# EAGLE library part SN65C3221EPWR (library SN65C3221EPWR)
3-V To 5.5-V Single Channel RS-232 1 Mbit/s Line Driver/Receiver Source: Datasheet <http://www.ti.com/lit/gpn/sn65c3221e>
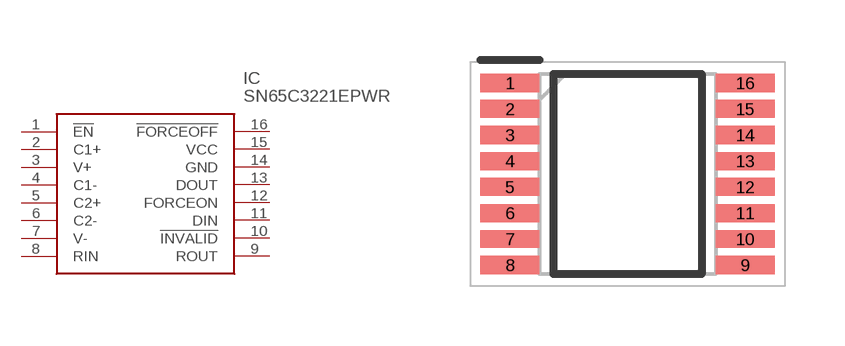
[diagram p0: symbol with the pads of SOP65P640X120-16N; footprint SOP65P640X120-16N]

Designator prefix IC

## SN65C3221EPWR (Description: 3-V To 5.5-V Single Channel RS-232 1 Mbit/s Line Driver/Receiver; Height: 1.2mm; Manufacturer_Name: Texas Instruments; Manufacturer_Part_Number: SN65C3221EPWR; Mouser_Part_Number: 595-SN65C3221EPWR; Mouser_Price-Stock: https://www.mouser.co.uk/ProductDetail/Texas-Instruments/SN65C3221EPWR?qs=6siQ5y5nVCwNDulozFTH8A%3D%3D)  [SOP65P640X120-16N]
1  !EN
2  C1+
3  V+
4  C1-
5  C2+
6  C2-
7  V-
8  RIN
9  ROUT
10  !INVALID
11  DIN
12  FORCEON
13  DOUT
14  GND
15  VCC
16  !FORCEOFF

## Footprint SOP65P640X120-16N (pad centres in mm)
PW0016A
smd 1.475 x 0.45: 1 -2.938,2.275; 2 -2.938,1.625; 3 -2.938,0.975; 4 -2.938,0.325; 5 -2.938,-0.325; 6 -2.938,-0.975; 7 -2.938,-1.625; 8 -2.938,-2.275; 9 2.938,-2.275; 10 2.938,-1.625; 11 2.938,-0.975; 12 2.938,-0.325; 13 2.938,0.325; 14 2.938,0.975; 15 2.938,1.625; 16 2.938,2.275